# EAGLE library part GN?* (library score-relay)
ULTRA-SMALL PACKAGE SLIM POLARIZED RELAY NAiS Source: http://www.mew-europe.com/.. en_ds_61007_0000.pdf
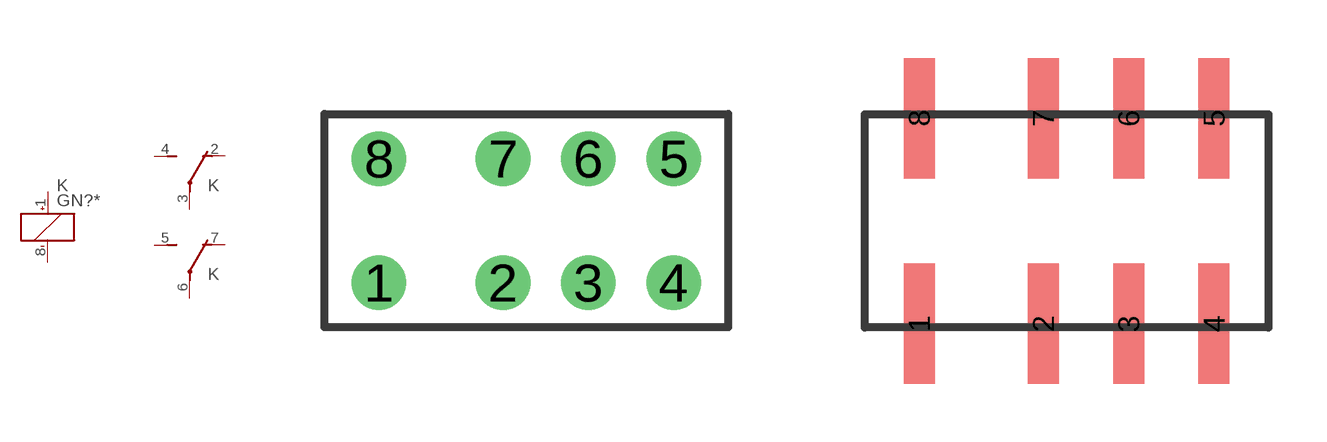
[diagram p32: symbol with the pads of GN; footprints GN, GN-A]

Designator prefix K; gates R=K+- S=U T=U

## GN20003 (MPN: AGN20003; OC_FARNELL: unknown; OC_NEWARK: 13P0830), GN20006 (MPN: AGN20006; OC_FARNELL: unknown; OC_NEWARK: 13P0831), GN20009 (MF: AROMAT/ MATSUSHITA; MPN: AGN20009; OC_FARNELL: unknown; OC_NEWARK: 10C3280), GN20012 (MPN: AGN20012; OC_FARNELL: 3104783; OC_NEWARK: 13P0832), GN2001H (MF: AROMAT/ MATSUSHITA; MPN: AGN2001H; OC_FARNELL: unknown; OC_NEWARK: 10C3281), GN20024 (MPN: AGN20024; OC_FARNELL: 4364211; OC_NEWARK: 13P0833), GN2004H (MPN: AGN2004H; OC_FARNELL: 3104771; OC_NEWARK: 13P0834)  [GN]
1  R:+  pas
2  S:O  pas
3  S:P  pas
4  S:S  pas
5  T:S  pas
6  T:P  pas
7  T:O  pas
8  R:-  pas

## GN21003 (MPN: AGN21003; OC_FARNELL: unknown; OC_NEWARK: 15P8576), GN21006 (MPN: AGN21006; OC_FARNELL: unknown; OC_NEWARK: 15P8577), GN21009 (OC_FARNELL: unknown; OC_NEWARK: unknown), GN21012 (MPN: AGN21012; OC_FARNELL: unknown; OC_NEWARK: 15P8578), GN2101H (OC_FARNELL: unknown; OC_NEWARK: unknown), GN21024 (OC_FARNELL: unknown; OC_NEWARK: unknown), GN2104H (MPN: AGN2104H; OC_FARNELL: unknown; OC_NEWARK: 15P8579)  [GN]
1  R:-  pas
2  S:O  pas
3  S:P  pas
4  S:S  pas
5  T:S  pas
6  T:P  pas
7  T:O  pas
8  R:+  pas

## GN200A03 (MPN: AGN200A03; OC_FARNELL: unknown; OC_NEWARK: 13P0812), GN200A06 (MPN: AGN200A06; OC_FARNELL: unknown; OC_NEWARK: 13P0814), GN200A09 (MPN: AGN200A09Z; OC_FARNELL: unknown; OC_NEWARK: 13P0815), GN200A12 (MPN: AGN200A12; OC_FARNELL: 3104801; OC_NEWARK: 13P0816), GN200A1H (OC_FARNELL: unknown; OC_NEWARK: unknown), GN200A24 (MPN: AGN200A24; OC_FARNELL: unknown; OC_NEWARK: 13P0818), GN200A4H (MPN: AGN200A4H; OC_FARNELL: 3104795; OC_NEWARK: 13P0820)  [GN-A]
Pads as for GN

## GN200S03 (MPN: AGN200S03; OC_FARNELL: unknown; OC_NEWARK: 13P0822), GN200S06 (OC_FARNELL: unknown; OC_NEWARK: unknown), GN200S09 (OC_FARNELL: unknown; OC_NEWARK: unknown), GN200S12 (MPN: AGN200S12; OC_FARNELL: 1448335; OC_NEWARK: 13P0824), GN200S1H, GN200S24 (MPN: AGN200S24; OC_FARNELL: unknown; OC_NEWARK: 13P0826), GN200S4H (MPN: AGN200S4H; OC_FARNELL: unknown; OC_NEWARK: 13P0828)  [GN-S]
Pads as for GN

## GN210A03 (MPN: AGN210A03; OC_FARNELL: unknown; OC_NEWARK: 15P8571), GN210A06 (OC_FARNELL: unknown; OC_NEWARK: unknown), GN210A09 (OC_FARNELL: unknown; OC_NEWARK: unknown), GN210A12 (MF: AROMAT/ MATSUSHITA; MPN: AGN210A12; OC_FARNELL: unknown; OC_NEWARK: 10C3303), GN210A1H (OC_FARNELL: unknown; OC_NEWARK: unknown), GN210A24 (OC_FARNELL: unknown; OC_NEWARK: unknown), GN210A4H (MPN: AGN210A4H; OC_FARNELL: unknown; OC_NEWARK: 15P8573)  [GN-A]
Pads as for GN

## GN210S03 (MPN: AGN210S03; OC_FARNELL: unknown; OC_NEWARK: 15P8575), GN210S06 (OC_FARNELL: unknown; OC_NEWARK: unknown), GN210S09 (OC_FARNELL: unknown; OC_NEWARK: unknown), GN210S12 (MF: AROMAT/ MATSUSHITA; MPN: AGN210S12; OC_FARNELL: unknown; OC_NEWARK: 10C3320), GN210S1H (OC_FARNELL: unknown; OC_NEWARK: unknown), GN210S24 (OC_FARNELL: unknown; OC_NEWARK: unknown), GN210S4H (OC_FARNELL: unknown; OC_NEWARK: unknown)  [GN-S]
Pads as for GN

## Footprint GN (pad centres in mm)
ULTRA-SMALL PACKAGE SLIM POLARIZED RELAY NAiS Source: http://www.mew-europe.com/.. en_ds_61007_0000.pdf
drill 0.9: 1 -3.835,-1.6; 2 -0.635,-1.6; 3 1.565,-1.6; 4 3.765,-1.6; 5 3.765,1.6; 6 1.565,1.6; 7 -0.635,1.6; 8 -3.835,1.6

## Footprint GN-A (pad centres in mm)
ULTRA-SMALL PACKAGE SLIM POLARIZED RELAY NAiS Source: http://www.mew-europe.com/.. en_ds_61007_0000.pdf
smd 0.8 x 3.1: 1 -3.835,-2.65; 2 -0.635,-2.65; 3 1.565,-2.65; 4 3.765,-2.65; 5 3.765,2.65; 6 1.565,2.65; 7 -0.635,2.65; 8 -3.835,2.65

## Footprint GN-S (pad centres in mm)
ULTRA-SMALL PACKAGE SLIM POLARIZED RELAY NAiS Source: http://www.mew-europe.com/.. en_ds_61007_0000.pdf
smd 0.8 x 2.25: 1 -3.835,-2.225; 2 -0.635,-2.225; 3 1.565,-2.225; 4 3.765,-2.225; 5 3.765,2.225; 6 1.565,2.225; 7 -0.635,2.225; 8 -3.835,2.225